# Altium footprint library 2.45-ECM-XF.PcbLib: 58 footprints (part 3 of 4)
Each footprint in its own frame and in the unit in brackets; x right, y up, seen from the top. Pads: shape width x height; smd on the part's side, far side on the other; paste and mask are expansions set on the pad; w line width, h text height; cw(c..) or ccw(c..) is an arc to the next point about the centre after c.
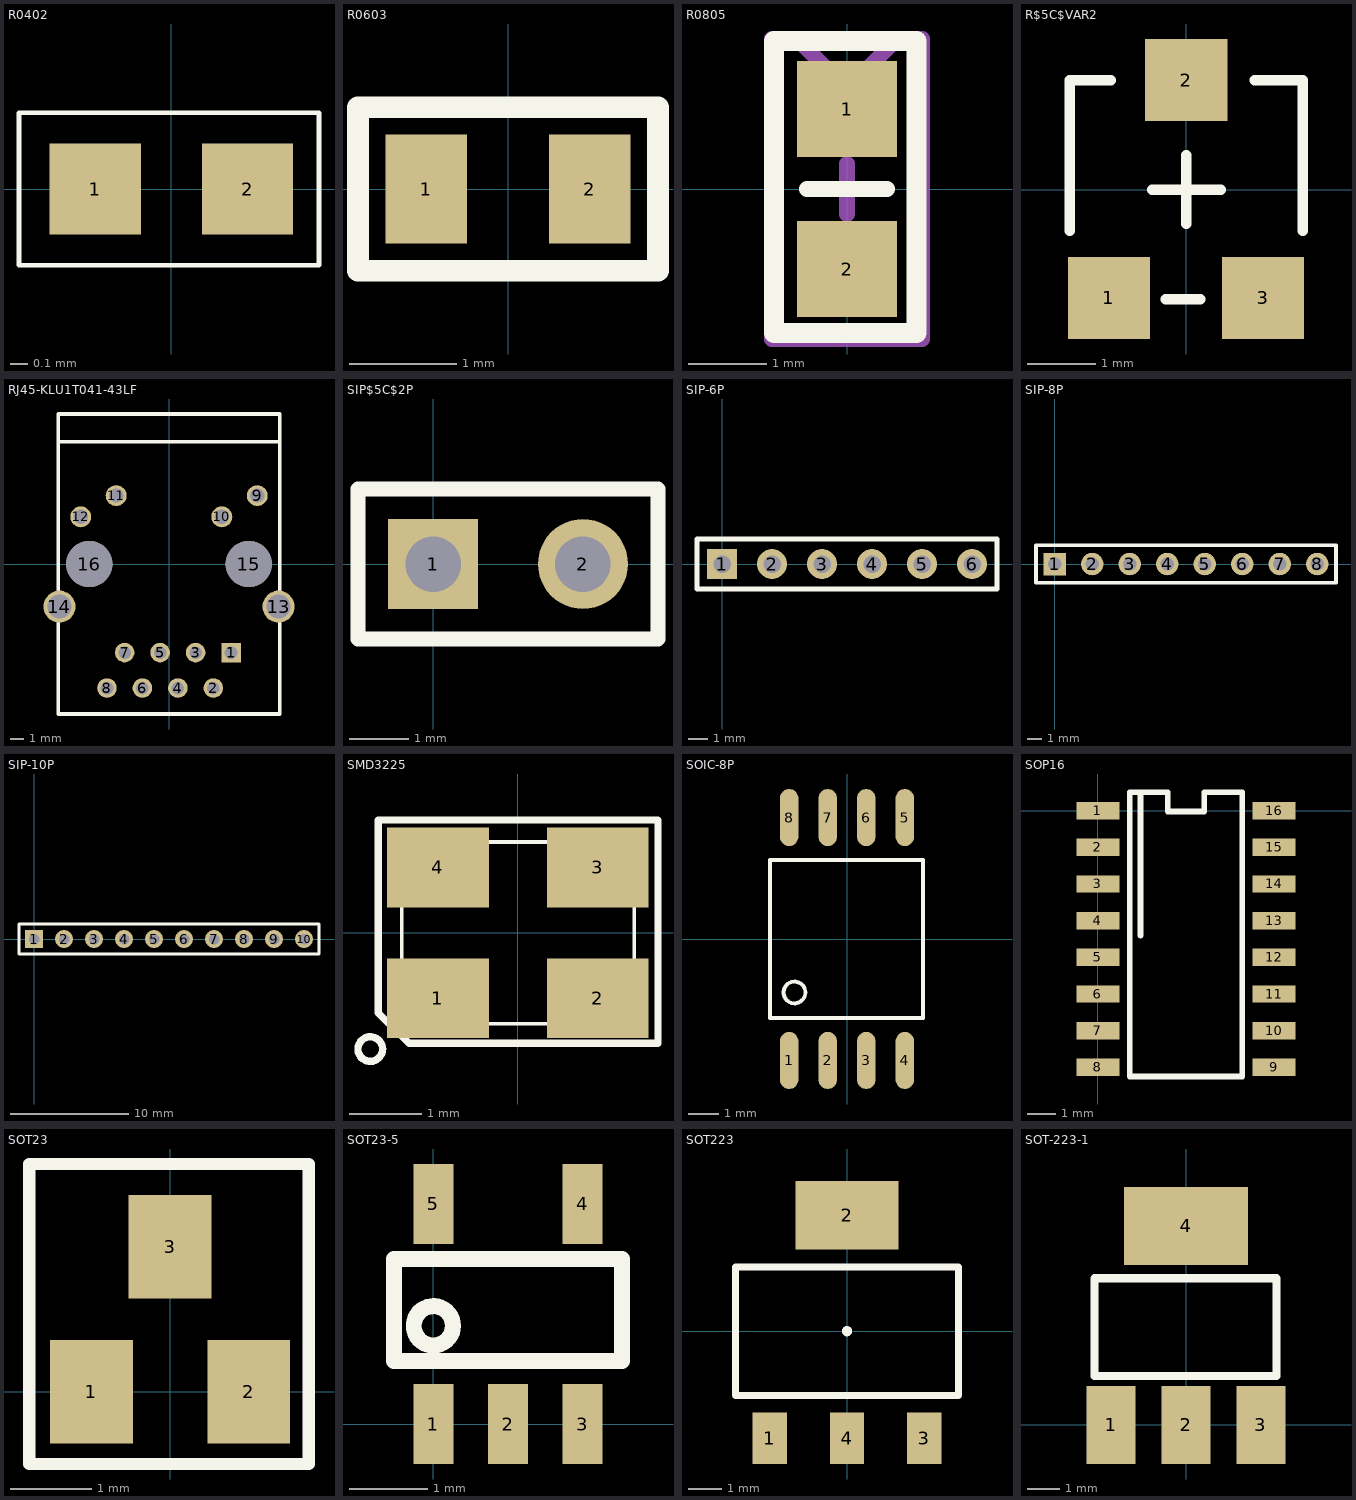
[diagram p2: the footprints below, top view; thin cyan lines are the x and y axes]

## R0402 [mil]
pads (2):
  rect 20x20 smd: 1(-16.73,0) 2(16.73,0)
Top Overlay:
  lines w1: -33.46,-16.65 -33.46,16.73 32.4,16.73 32.4,-16.65 -33.46,-16.65

## R0603 [mil]
pads (2):
  rect 30x40 smd: 1(-30,0) 2(30,0)
Top Overlay:
  lines w8: -55,-30 -55,30 55,30 55,-30 -55,-30

## R0805 [mil]
pads (2):
  rect 50x48 smd: 1(0,40) 2(0,-40)
Top Overlay:
  lines w8: -20,0 20,0
  lines w10: -36.5,-72.09 -36.5,73.94 34.84,73.94 34.84,-72.09 -36.5,-72.09
Mechanical118:
  lines w8: -25,75 0,50 25,75 ; -12.5,0 12.5,0 ; 0,-12.5 0,12.5 ; -37.5,-75 -37.5,75 37.5,75 37.5,-75 -37.5,-75

## R$5C$VAR2 [mm]
height 2
pads (3):
  rect 1.2x1.2 smd: 1(-1.13,-1.58) 2(0,1.6) 3(1.12,-1.58)
Top Overlay:
  lines w0.152: -1.7,-0.6 -1.7,1.6 -1.1,1.6 ; -0.5,0 0.5,0 ; -0.3,-1.6 0.2,-1.6 ; 0,-0.5 0,0 0,0.5 ; 1,1.6 1.7,1.6 1.7,-0.6

## RJ45-KLU1T041-43LF [mm]
pads (16):
  rect 1.4x1.4 / inner round 1.4 / far side rect 1.4x1.4 hole 0.9: 1(4.445,-6.35)
  round 1.4 hole 0.9: 2(3.175,-8.89) 3(1.905,-6.35) 4(0.635,-8.89) 5(-0.635,-6.35) 6(-1.905,-8.89) 7(-3.175,-6.35) 8(-4.445,-8.89)
  round 1.5 hole 1.02: 9(6.325,4.9) 10(3.785,3.38) 11(-3.785,4.9) 12(-6.325,3.38)
  round 2.286 hole 1.7: 13(7.85,-3.05) 14(-7.85,-3.05)
  round 3.302 hole 3.3 unplated: 15(5.715,0) 16(-5.715,0)
Top Overlay:
  lines w0.254: -7.874,8.75 7.874,8.75 ; -7.95,-10.75 7.95,-10.75 7.95,10.75 -7.95,10.75 -7.95,-10.75

## SIP$5C$2P [mil]
pads (2):
  rect 60x60 / inner round 60 / far side rect 60x60 hole 37: 1(0,0)
  round 60 hole 37: 2(100,0)
Top Overlay:
  lines w10: -50,-50 -50,50 150,50 150,-50 -50,-50

## SIP-6P [mil]
pads (6):
  rect 60x60 / inner round 60 / far side rect 60x60 hole 35: 1(0,0)
  round 60 hole 35: 2(100,0) 3(200,0) 4(300,0) 5(400,0) 6(500,0)
Top Overlay:
  lines w10: -50,-50 -50,50 550,50 550,-50 -50,-50

## SIP-8P [mil]
pads (8):
  rect 60x60 / inner round 60 / far side rect 60x60 hole 35: 1(0,0)
  round 60 hole 35: 2(100,0) 3(200,0) 4(300,0) 5(400,0) 6(500,0) 7(600,0) 8(700,0)
Top Overlay:
  lines w10: -50,-50 -50,50 750,50 750,-50 -50,-50

## SIP-10P [mil]
pads (10):
  rect 60x60 / inner round 60 / far side rect 60x60 hole 35: 1(0,0)
  round 60 hole 35: 2(100,0) 3(200,0) 4(300,0) 5(400,0) 6(500,0) 7(600,0) 8(700,0) 9(800,0) 10(900,0)
Top Overlay:
  lines w10: -50,-50 -50,50 950,50 950,-50 -50,-50

## SMD3225 [mm]
pads (4):
  rect 1.4x1.1 smd: 1(-1.1,-0.9) 2(1.1,-0.9) 3(1.1,0.9) 4(-1.1,0.9)
Top Overlay:
  circle w0.025: c-2.032,-1.6 r0.169
  circle w0.102: c-2.032,-1.6 r0.169
  lines w0.051: -1.6,-1.25 -1.6,1.25 1.6,1.25 1.6,-1.25 -1.6,-1.25
  lines w0.102: -1.925,-1.1 -1.925,1.553 1.929,1.553 1.929,-1.52 -1.5,-1.52 -1.925,-1.1

## SOIC-8P [mil]
pads (8):
  oval 24x74 smd: 1(-75,-157.48) 2(-25,-157.48) 3(25,-157.48) 4(75,-157.48) 5(75,157.48) 6(25,157.48) 7(-25,157.48) 8(-75,157.48)
Top Overlay:
  circle w5: c-68.08,-69.33 r14.1
  lines w5: -100,-102.36 98.62,-102.36 98.62,102.36 -100,102.36 -100,-102.36

## SOP16 [mm]
pads (16):
  rect 1.5x0.6 smd: 1(0,0) 2(0,-1.27) 3(0,-2.54) 4(0,-3.81) 5(0,-5.08) 6(0,-6.35) 7(0,-7.62) 8(0,-8.89) 9(6.096,-8.89) 10(6.096,-7.62) 11(6.096,-6.35) 12(6.096,-5.08) 13(6.096,-3.81) 14(6.096,-2.54) 15(6.096,-1.27) 16(6.096,0)
Top Overlay:
  lines w0.2: 1.472,-4.325 1.472,0.53 ; 1.1,-9.205 1.1,0.635 2.419,0.635 2.419,-0.03 3.678,-0.03 3.678,0.635 5,0.635 5,-9.205 1.1,-9.205

## SOT23 [mil]
pads (3):
  rect 40x50 smd: 1(-38,0) 2(38,0) 3(0,70)
Top Overlay:
  lines w6: -68,-35 -68,110 67,110 67,-35 -68,-35

## SOT23-5 [mil]
pads (5):
  rect 20x40 smd: 1(0,0) 2(37.4,0) 3(74.8,0) 4(74.8,110.24) 5(0,110.24)
Top Overlay:
  circle w8: c0,49.21 r9.84
  lines w8: -19.69,31.5 -19.69,82.68 94.49,82.68 94.49,31.5 -19.69,31.5

## SOT223 [mil]
pads (4):
  rect 40x60 smd: 1(-90,-125) 3(90,-125) 4(0,-125)
  rect 120x80 smd: 2(0,135)
Top Overlay:
  circle w8: c0,0 r2
  lines w8: -130,-75 130,-75 130,75 -130,75 -130,-75

## SOT-223-1 [mm]
pads (4):
  rect 1.5x2.4 smd: 1(-2.3,0) 2(0,0) 3(2.3,0)
  rect 3.8x2.4 smd: 4(0,6.11)
Top Overlay:
  lines w0.254: -2.808,1.5 -2.808,4.5 2.78,4.5 2.78,1.5 -2.808,1.5